# Altium footprint library HyTechDevices.PCBLIB: 298 footprints (part 16 of 19)
Each footprint in its own frame and in the unit in brackets; x right, y up, seen from the top. Pads: shape width x height; smd on the part's side, far side on the other; paste and mask are expansions set on the pad; w line width, h text height; cw(c..) or ccw(c..) is an arc to the next point about the centre after c.
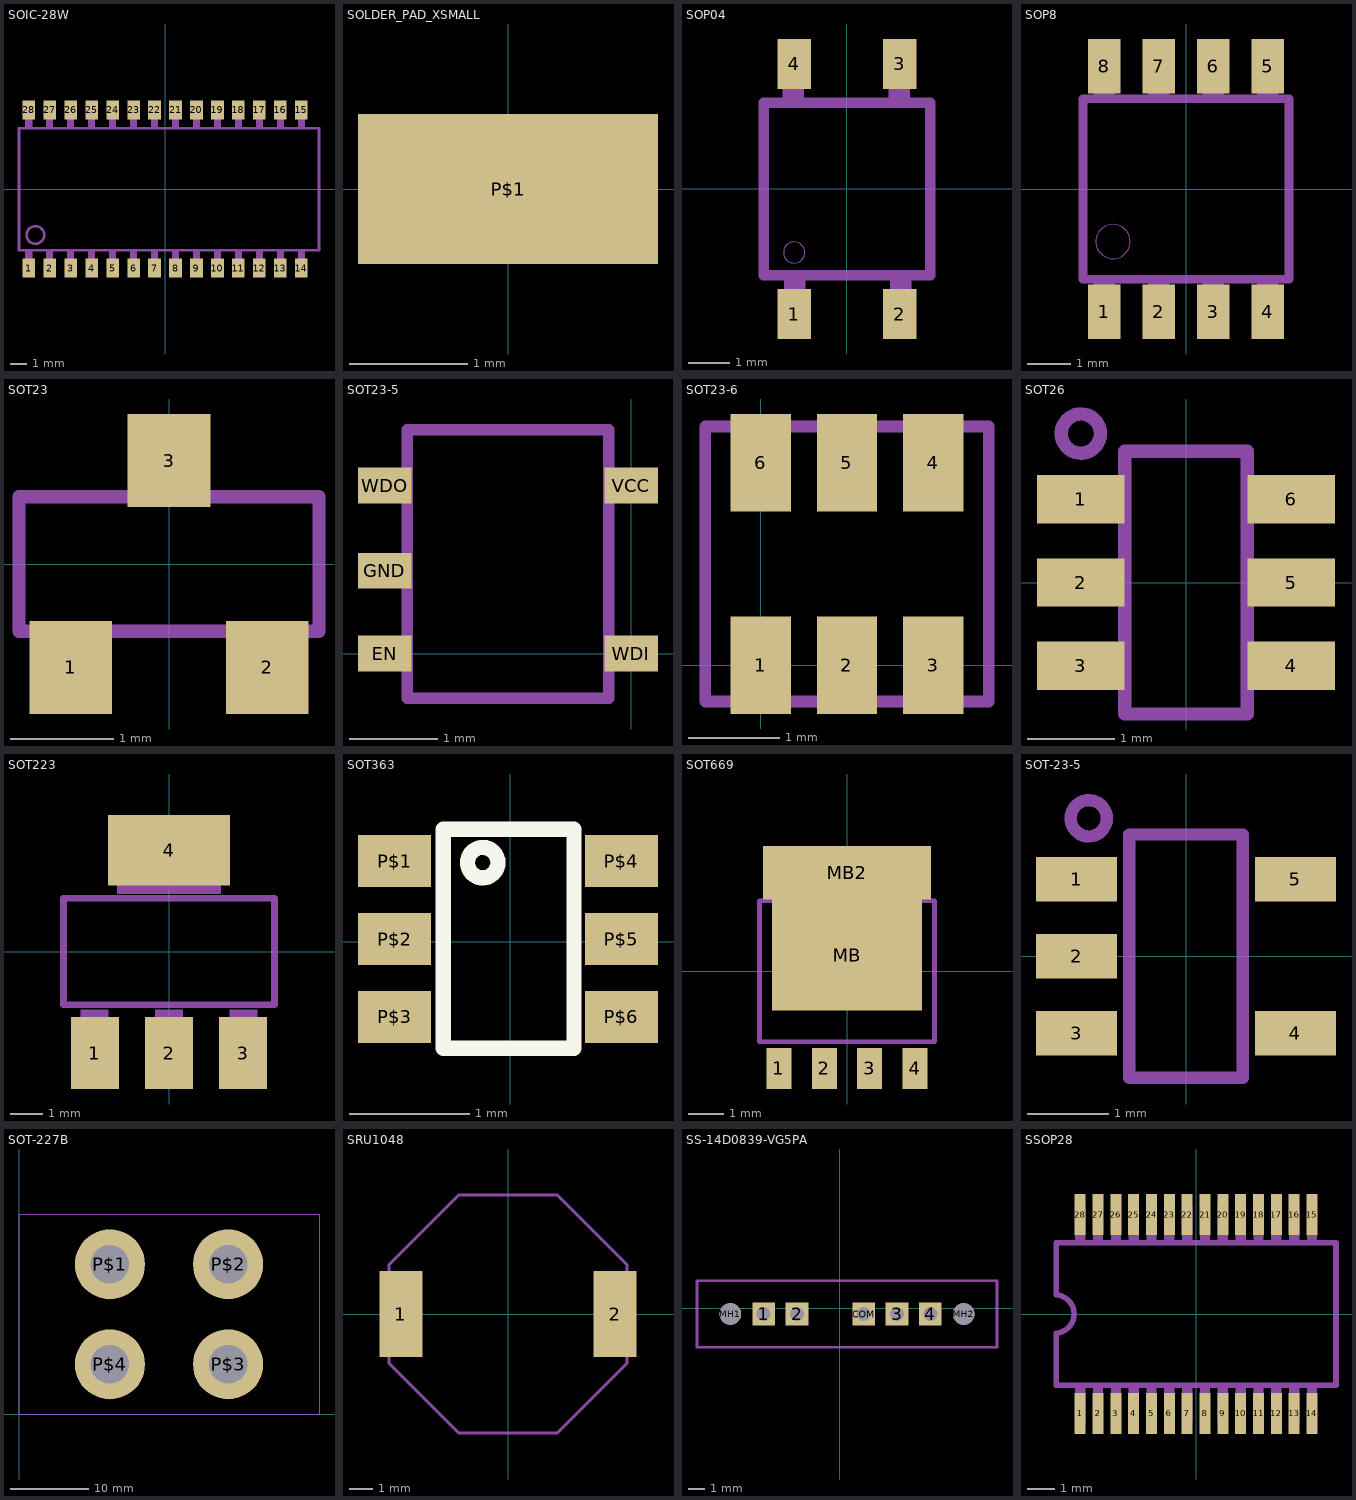
[diagram p15: the footprints below, top view; thin cyan lines are the x and y axes]

## SOIC-28W [mil]
pads (28):
  rect 30x45 smd: 1(-325,-188.5) 2(-275,-188.5) 3(-225,-188.5) 4(-175,-188.5) 5(-125,-188.5) 6(-75,-188.5) 7(-25,-188.5) 8(25,-188.5) 9(75,-188.5) 10(125,-188.5) 11(175,-188.5) 12(225,-188.5) 13(275,-188.5) 14(325,-188.5) 15(325,188.5) 16(275,188.5) 17(225,188.5) 18(175,188.5) 19(125,188.5) 20(75,188.5) 21(25,188.5) 22(-25,188.5) 23(-75,188.5) 24(-125,188.5) 25(-175,188.5) 26(-225,188.5) 27(-275,188.5) 28(-325,188.5)
Mechanical 3:
  region: 67,146.5 67,199.5 83,199.5 83,146.5
  region: 17,146.5 17,199.5 33,199.5 33,146.5
  region: -33,146.5 -33,199.5 -17,199.5 -17,146.5
  region: -83,146.5 -83,199.5 -67,199.5 -67,146.5
  region: -133,146.5 -133,199.5 -117,199.5 -117,146.5
  region: -183,146.5 -183,199.5 -167,199.5 -167,146.5
  region: -233,146.5 -233,199.5 -217,199.5 -217,146.5
  region: -283,146.5 -283,199.5 -267,199.5 -267,146.5
  region: -333,146.5 -333,199.5 -317,199.5 -317,146.5
  region: -333,-200.5 -333,-147.5 -317,-147.5 -317,-200.5
  region: -283,-200.5 -283,-147.5 -267,-147.5 -267,-200.5
  region: -233,-200.5 -233,-147.5 -217,-147.5 -217,-200.5
  region: -183,-200.5 -183,-147.5 -167,-147.5 -167,-200.5
  region: -133,-200.5 -133,-147.5 -117,-147.5 -117,-200.5
  region: -83,-200.5 -83,-147.5 -67,-147.5 -67,-200.5
  region: -33,-200.5 -33,-147.5 -17,-147.5 -17,-200.5
  region: 17,-200.5 17,-147.5 33,-147.5 33,-200.5
  region: 67,-200.5 67,-147.5 83,-147.5 83,-200.5
  region: 117,146.5 117,199.5 133,199.5 133,146.5
  region: 167,146.5 167,199.5 183,199.5 183,146.5
  region: 217,146.5 217,199.5 233,199.5 233,146.5
  region: 267,146.5 267,199.5 283,199.5 283,146.5
  region: 317,146.5 317,199.5 333,199.5 333,146.5
  region: 117,-200.5 117,-147.5 133,-147.5 133,-200.5
  region: 167,-200.5 167,-147.5 183,-147.5 183,-200.5
  region: 217,-200.5 217,-147.5 233,-147.5 233,-200.5
  region: 267,-200.5 267,-147.5 283,-147.5 283,-200.5
  region: 317,-200.5 317,-147.5 333,-147.5 333,-200.5
Mechanical 7:
  circle w6: c-309,-109.5 r21
  lines w6: -348,-145.5 367,-145.5 367,144.5 -348,144.5 -348,-145.5

## SOLDER_PAD_XSMALL [mil]
pads (1):
  rect 100x50 smd: P$1(0,0)

## SOP04 [mil]
pads (4):
  rect 31.5x47.24 smd: 1(-50,-118.11) 2(50,-118.11) 3(50,118.11) 4(-50,118.11)
Mechanical 3:
  region: -59.06,-131.89 -59.06,-82.68 -39.37,-82.68 -39.37,-131.89
  region: 40.94,-131.89 40.94,-82.68 60.63,-82.68 60.63,-131.89
  region: 39.37,82.68 39.37,131.89 59.06,131.89 59.06,82.68
  region: -60.63,82.68 -60.63,131.89 -40.94,131.89 -40.94,82.68
Mechanical 7:
  circle w0: c-50,-60 r10
  lines w10: -78.74,-81.69 78.74,-81.69 78.74,81.69 -78.74,81.69 -78.74,-81.69

## SOP8 [mil]
pads (8):
  rect 29.92x50 smd: 1(-75,-112.6) 2(-25,-112.6) 3(25,-112.6) 4(75,-112.6) 5(75,112.6) 6(25,112.6) 7(-25,112.6) 8(-75,112.6)
Mechanical 3:
  region: -84.65,-122.05 -84.65,-81.69 -65.35,-81.69 -65.35,-122.05
  region: -34.65,-122.05 -34.65,-86.61 -15.35,-86.61 -15.35,-122.05
  region: 15.35,-122.05 15.35,-86.61 34.65,-86.61 34.65,-122.05
  region: 65.35,-122.05 65.35,-86.61 84.65,-86.61 84.65,-122.05
  region: 65.35,86.61 65.35,122.05 84.65,122.05 84.65,86.61
  region: 15.35,86.61 15.35,122.05 34.65,122.05 34.65,86.61
  region: -34.65,86.61 -34.65,122.05 -15.35,122.05 -15.35,86.61
  region: -84.65,86.61 -84.65,122.05 -65.35,122.05 -65.35,86.61
  lines w8: -94.49,-82.68 94.49,-82.68 ; -94.49,82.68 94.49,82.68
Mechanical 7:
  circle w0: c-66.93,-48.23 r15.75
  lines w8: -94.49,-82.68 -94.49,-61.02 -94.49,82.68 ; 94.49,-82.68 94.49,-61.02 94.49,82.68

## SOT23 [mil]
pads (3):
  rect 31.5x35.43 smd: 1(-37.4,-39.37) 2(37.4,-39.37) 3(0,39.37)
Mechanical 7:
  lines w5: -57.09,-25.59 -57.09,25.59 57.09,25.59 57.09,-25.59 -57.09,-25.59

## SOT23-5 [mil]
pads (5):
  rect 24x16 smd: EN(-110,0) GND(-110,37) VCC(0,75) WDI(0,0) WDO(-110,75)
Mechanical 7:
  lines w5: -100,-20 -100,100 -10,100 -10,-20 -100,-20

## SOT23-6 [mil]
pads (6):
  rect 26x42 smd: 1(0,0) 2(37,0) 3(74,0) 4(74,87) 5(37,87) 6(0,87)
Mechanical 7:
  lines w5: -24,-15.6 98,-15.6 98,102.6 -24,102.6 -24,-15.6
  text "1" at -30,0 h18.6

## SOT26 [mm]
pads (6):
  rect 1x0.55 smd: 1(-1.2,0.95) 2(-1.2,0) 3(-1.2,-0.95) 4(1.2,-0.95) 5(1.2,0) 6(1.2,0.95)
Mechanical 7:
  circle w0.152: c-1.2,1.7 r0.224
  lines w0.152: -0.7,-1.5 0.7,-1.5 0.7,1.5 -0.7,1.5 -0.7,-1.5

## SOT223 [mil]
pads (4):
  rect 59.06x88 smd: 1(-90.55,-124.02) 2(0,-124.02) 3(90.55,-124.02)
  rect 149.61x86.61 smd: 4(0,124.02)
Mechanical 3:
  region: -63,71 -63,144 63,144 63,71
  region: -17,-144 -17,-71 17,-71 17,-144
  region: -108,-144 -108,-71 -74,-71 -74,-144
  region: 74,-144 74,-71 108,-71 108,-144
  region: -63,71 -63,144 63,144 63,71
  region: -17,-144 -17,-71 17,-71 17,-144
  region: -108,-144 -108,-71 -74,-71 -74,-144
  region: 74,-144 74,-71 108,-71 108,-144
Mechanical 7:
  lines w8: -129,-65 129,-65 129,65 -129,65 -129,-65

## SOT363 [mil]
pads (6):
  rect 24x17 smd: P$1(-38,26.5) P$2(-38,0.9) P$3(-38,-24.7) P$4(36.6,26.5) P$5(36.6,0.9) P$6(36.6,-24.7)
Top Overlay:
  circle w5: c-9,26 r5
  lines w5: -22,-35 -22,37 21,37 21,-35 -22,-35

## SOT669 [mm]
pads (6):
  rect 0.7x1.15 smd: 1(-1.905,-2.725) 2(-0.635,-2.725) 3(0.635,-2.725) 4(1.905,-2.725)
  rect 4.2x3.1 smd: MB(0,0.45)
  rect 4.7x1.5 smd: MB2(0,2.75)
Mechanical 7:
  lines w0.127: -2.45,-1.975 2.45,-1.975 2.45,1.975 -2.45,1.975 -2.45,-1.975

## SOT-23-5 [mm]
pads (5):
  rect 1x0.55 smd: 1(-1.35,0.95) 2(-1.35,0) 3(-1.35,-0.95) 4(1.35,-0.95) 5(1.35,0.95)
Mechanical 7:
  circle w0.152: c-1.2,1.7 r0.224
  lines w0.152: -0.7,-1.5 0.7,-1.5 0.7,1.5 -0.7,1.5 -0.7,-1.5

## SOT-227B [mil]
pads (4):
  round 350 hole 192.91: P$1(454.72,748.03) P$2(1045.28,748.03) P$3(1045.28,248.03) P$4(454.72,248.03)
Mechanical 7:
  lines w5: 0,0 0,1000 1500,1000 1500,0 0,0

## SRU1048 [mil]
pads (2):
  rect 70.87x141.73 smd: 1(-177.17,0) 2(177.17,0)
Mechanical 7:
  lines w5: -196.85,-81.54 -196.85,81.54 -81.54,196.85 81.54,196.85 196.85,81.54 196.85,-81.54 81.54,-196.85 -81.54,-196.85 -196.85,-81.54

## SS-14D0839-VG5PA [mm]
pads (7):
  rect 1.358x1.358 / inner round 1.255 / far side rect 1.358x1.358 hole 0.85: 1(-4.57,-0.35) 2(-2.57,-0.35) 3(3.43,-0.35) 4(5.43,-0.35) COM(1.43,-0.35)
  round 1.3 hole 1.3 unplated: MH1(-6.57,-0.35) MH2(7.43,-0.35)
Mechanical 7:
  lines w0.152: -8.57,-2.35 -8.57,1.65 9.43,1.65 9.43,-2.35 -8.57,-2.35

## SSOP28 [mil]
pads (28):
  rect 15.75x59.06 smd: 1(-166.34,-142.72) 2(-140.75,-142.72) 3(-115.16,-142.72) 4(-89.57,-142.72) 5(-63.98,-142.72) 6(-38.39,-142.72) 7(-12.8,-142.72) 8(12.8,-142.72) 9(38.39,-142.72) 10(63.98,-142.72) 11(89.57,-142.72) 12(115.16,-142.72) 13(140.75,-142.72) 14(166.34,-142.72) 15(166.34,142.72) 16(140.75,142.72) 17(115.16,142.72) 18(89.57,142.72) 19(63.98,142.72) 20(38.39,142.72) 21(12.8,142.72) 22(-12.8,142.72) 23(-38.39,142.72) 24(-63.98,142.72) 25(-89.57,142.72) 26(-115.16,142.72) 27(-140.75,142.72) 28(-166.34,142.72)
Mechanical 3:
  region: -173.34,-155 -173.34,-104 -159.34,-104 -159.34,-155
  region: -147.75,-155 -147.75,-104 -133.75,-104 -133.75,-155
  region: -122.16,-155 -122.16,-104 -108.16,-104 -108.16,-155
  region: -96.57,-155 -96.57,-104 -82.57,-104 -82.57,-155
  region: -70.98,-155 -70.98,-104 -56.98,-104 -56.98,-155
  region: -45.39,-155 -45.39,-104 -31.39,-104 -31.39,-155
  region: -19.8,-155 -19.8,-104 -5.8,-104 -5.8,-155
  region: 5.8,-155 5.8,-104 19.8,-104 19.8,-155
  region: 31.39,-155 31.39,-104 45.39,-104 45.39,-155
  region: 56.98,-155 56.98,-104 70.98,-104 70.98,-155
  region: 82.57,-155 82.57,-104 96.57,-104 96.57,-155
  region: 108.16,-155 108.16,-104 122.16,-104 122.16,-155
  region: 133.75,-155 133.75,-104 147.75,-104 147.75,-155
  region: 159.34,-155 159.34,-104 173.34,-104 173.34,-155
  region: 159.34,104 159.34,155 173.34,155 173.34,104
  region: 133.75,104 133.75,155 147.75,155 147.75,104
  region: 108.16,104 108.16,155 122.16,155 122.16,104
  region: 82.57,104 82.57,155 96.57,155 96.57,104
  region: 56.98,104 56.98,155 70.98,155 70.98,104
  region: 31.39,104 31.39,155 45.39,155 45.39,104
  region: 5.8,104 5.8,155 19.8,155 19.8,104
  region: -19.8,104 -19.8,155 -5.8,155 -5.8,104
  region: -45.39,104 -45.39,155 -31.39,155 -31.39,104
  region: -70.98,104 -70.98,155 -56.98,155 -56.98,104
  region: -96.57,104 -96.57,155 -82.57,155 -82.57,104
  region: -122.16,104 -122.16,155 -108.16,155 -108.16,104
  region: -147.75,104 -147.75,155 -133.75,155 -133.75,104
  region: -173.34,104 -173.34,155 -159.34,155 -159.34,104
Mechanical 7:
  lines w8: -200.79,-102.36 200.79,-102.36 200.79,102.36 -200.79,102.36 -200.79,27.36 cw(c-202.41,0) -200.79,-27.36 -200.79,-102.36